# EAGLE library part MIC5219FMM (library v-reg-micrel)
VOLTAGE REGULATOR
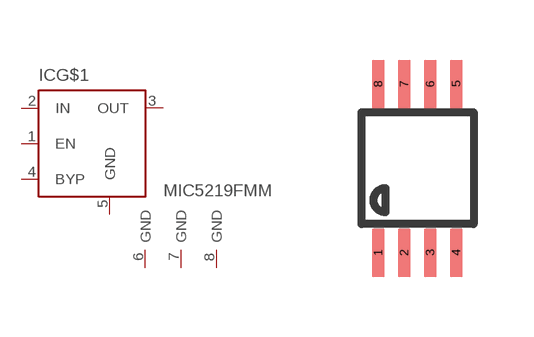
[diagram p1: symbol with the pads of MSOP08; footprint MSOP08]

Designator prefix IC; gates G$1=MIC5219B G1=GND G2=GND G3=GND

## MIC5219FMM  [MSOP08]
1  G$1:EN  in
2  G$1:IN  in
3  G$1:OUT  out
4  G$1:BYP  pas
5  G$1:GND  pwr
6  G1:GND  pwr
7  G2:GND  pwr
8  G3:GND  pwr

## Footprint MSOP08 (pad centres in mm)
Mini Small Outline Package
smd 0.3 x 1.2: 1 -0.976,-2.113; 2 -0.326,-2.113; 3 0.324,-2.113; 4 0.974,-2.113; 5 0.974,2.112; 6 0.324,2.112; 7 -0.326,2.112; 8 -0.976,2.112